# EAGLE library part GNDBUS (library UCI_SolarCarStandard)
solar team library - FALL 2018 Design FALL 2018 Vehicle GND/Negative Bus
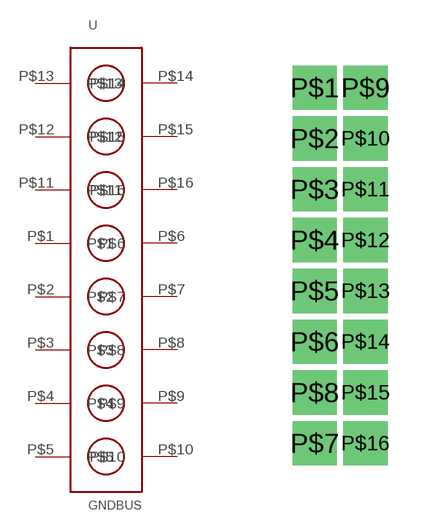
[diagram p3: symbol with the pads of GNDBUS; footprint GNDBUS]

Designator prefix -

## GNDBUS  [GNDBUS]
P$1  P$1
P$2  P$2
P$3  P$3
P$4  P$4
P$5  P$5
P$6  P$6
P$7  P$7
P$8  P$8
P$9  P$9
P$10  P$10
P$11  P$11
P$12  P$12
P$13  P$13
P$14  P$14
P$15  P$15
P$16  P$16

## Footprint GNDBUS (pad centres in mm)
drill 0.6 square: P$1 -19.05,8.89; P$2 -19.05,7.62; P$3 -19.05,6.35; P$4 -19.05,5.08; P$5 -19.05,3.81; P$6 -19.05,2.54; P$7 -19.05,0; P$8 -19.05,1.27; P$9 -17.78,8.89; P$10 -17.78,7.62; P$11 -17.78,6.35; P$12 -17.78,5.08; P$13 -17.78,3.81; P$14 -17.78,2.54; P$15 -17.78,1.27; P$16 -17.78,0